# Altium integrated library Linear Technology Power Management LED Driver ICs.IntLib: 490 symbols (part 21 of 48)
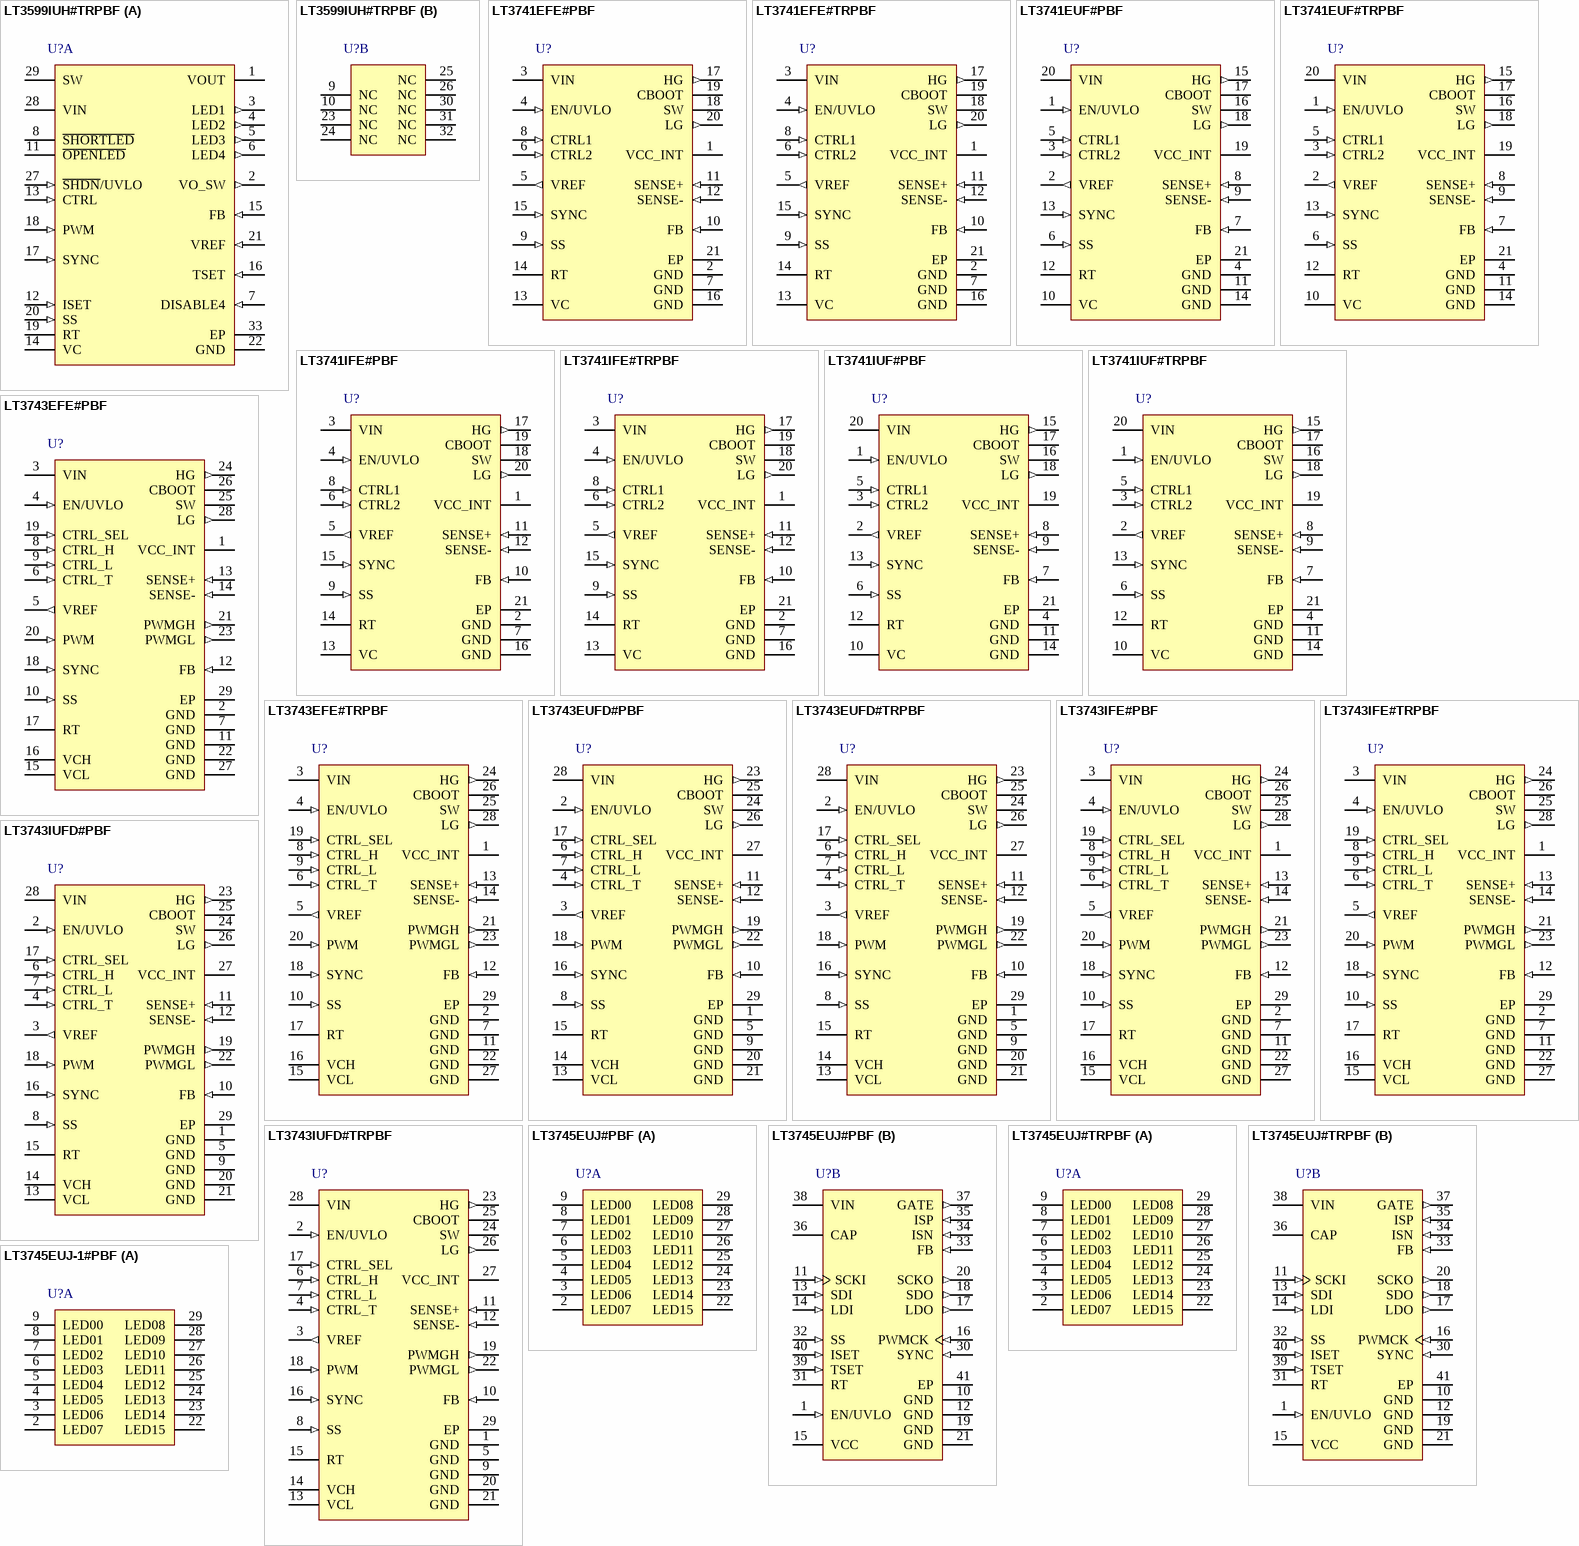
[diagram p40: symbols LT3599IUH#TRPBF to LT3745EUJ-1#PBF]

## LT3741EFE#TRPBF
designator U?
High Power, Constant Current, Constant Voltage Step-Down Controller, 6 to 36 V Vin, 20-pin SOP (FE-20-EPV-CB), -40 to 85 degC, Pb-Free, Tape and Reel; Manufacturer: Linear Technology; PartNumber: LT3741EFE#TRPBF; Topology: Buck; Vin Min(V): 6; DatasheetVersion: Rev. C; PackageVersion: Rev. I, 05/2011; PackageReference: FE-20; PackageDescription: 20-Pin Plastic TSSOP, Body 6.5 x 4.4 mm, Pitch 0.65 mm; Supplier 1: Digi-Key; Supplier Part Number 1: LT3741EFE#TRPBF-ND; Supplier 2: Newark; Supplier Part Number 2: 64R6830; Packing: Tape and Reel; RoHS: TRUE; Mounting Technology: Surface Mount; ComponentLink1Description: Manufacturer URL; ComponentLink1URL: http://www.linear.com/; ComponentLink2Description: Datasheet; ComponentLink2URL: http://cds.linear.com/docs/en/datasheet/37411fc.pdf; ComponentLink3Description: Package Specification; ComponentLink3URL: http://cds.linear.com/docs/en/packaging/05081663__J_FE20(CB).pdf
footprint LT-FE-20-EPV-CB_N (SOP, 20-Leads, Body 6.6x4.5mm, Pitch 0.65mm, Thermal Pad 3.86x2.74mm, IPC Medium Density)
footprint LT-FE-20-EPV-CB_L (SOP, 20-Leads, Body 6.6x4.5mm, Pitch 0.65mm, Thermal Pad 3.86x2.74mm, IPC High Density)
footprint LT-FE-20-EPV-CB_M (SOP, 20-Leads, Body 6.6x4.5mm, Pitch 0.65mm, Thermal Pad 3.86x2.74mm, IPC Low Density)
pins: 1 VCC_INT (power) "A regulated 5V output for charging the CBOOT capacitor. VCC_INT also provides the power for the digital and switching subcircuits. Below 6V VIN, tie this pin to the rail. VCC_INT is current limited to 50mA. Shutdown (See Datasheet)", 2 GND (power) "Ground. The exposed pad must be soldered to the PCB", 3 VIN (power) "Input Supply Pin. Must be locally bypassed with a 4.7uF low-ESR capacitor to ground.", 4 EN/UVLO (in) "Enable Pin. The EN/UVLO pin acts as an enable pin and turns on the internal current bias core and subregulators at 1.55V. The pin doesnot have any pull-up or pull-down, requiring a voltage bias for normal part operation. (See Datasheet)", 5 VREF (out) "Buffered 2V reference capable of 0.5mA drive.", 6 CTRL2 (in) "Thermal control input used to reduce the regulated current level.", 7 GND (power) "Ground. The exposed pad must be soldered to the PCB", 8 CTRL1 (in) "The CTRL1 pin sets the high level regulated output current and overcurrent. The maximum input voltage is internally clamped to 1.5V. The overcurrent set point is equal to the high level regulated current level set by the (See Datasheet)", 9 SS (in) "The Soft-Start Pin. Place an external capacitor to ground to limit the regulated current during start-up conditions. The soft-start pin has a 11uA charging current. This pin controls regulated output current determined by (See Datasheet)", 10 FB (in) "Feedback Pin for Voltage Regulation and Overvoltage Protection. The feedback voltage is 1.21V. Overvoltage is also sensed through the FB pin. When the feedback voltage exceeds 1.5V, the overvoltage lockout prevents switching (See Datasheet)", 11 SENSE+ (in) "SENSE+ is the inverting input of the average current mode loop error amplifier. This pin is connected to the external current sense resistor, RS. The voltage drop between SENSE+ and SENSE- referenced to the voltage drop (See Datasheet)", 12 SENSE- (in) "SENSE- is the non-inverting input of the average current mode loop error amplifier. The reference current, based on CTRL1 or CTRL2 flows out of the pin to the output side of the sense resistor, RS.", 13 VC "VC provides the necessary compensation for the average current loop stability. Typical compensation values are 20k to 50k for the resistor and 2nF to 5nF for the capacitor.", 14 RT "A resistor to ground sets the switching frequency between 200kHz and 1MHz. When using the SYNC function, set the frequency to be 20% lower than the SYNC pulse frequency. This pin is current limited to 60uA. Do not leave this (See Datasheet)", 15 SYNC (in) "Frequency Synchronization Pin. This pin allows the switching frequency to be synchronized to an external clock. The RT resistor should be chosen to operate the internal clock at 20% slower than the SYNC pulse frequency. This (See Datasheet)", 16 GND (power) "Ground. The exposed pad must be soldered to the PCB", 17 HG (out) "HG is the top-FET gate drive signal that controls the state of the high-side external power FET. The driver pull-up impedance is 2.3ohm and pull-down impedance is 1.3ohm.", 18 SW "The SW pin is used internally as the lower-rail for the floating high-side driver. Externally, this node connects the two power-FETs and the inductor.", 19 CBOOT "The CBOOT pin provides a floating 5V regulated supply for the high-side FET driver. An external Schottky diode is required from the VCC_INT pin to the CBOOT pin to charge the CBOOT capacitor when the switch-pin is near (See Datasheet)", 20 LG (out) "LG is the bottom-FET gate drive signal that controls the state of the low-side external power-FET. The driver pull-up impedance is 2.3ohm and pull-down impedance is 1.0ohm.", 21 EP (power) "Ground. The exposed pad must be soldered to the PCB"

## LT3741EUF#PBF
designator U?
High Power, Constant Current, Constant Voltage Step-Down Controller, 6 to 36 V Vin, 20-pin QFN (UF-20), -40 to 85 degC, Pb-Free; Manufacturer: Linear Technology; PartNumber: LT3741EUF#PBF; Topology: Buck; Vin Min(V): 6; DatasheetVersion: Rev. C; PackageVersion: Rev. A, 10/2010; PackageReference: UF20; PackageDescription: 20-Pin Plastic QFN, Body 4 x 4 mm, Pitch 0.5 mm; Supplier 1: Digi-Key; Supplier Part Number 1: LT3741EUF#PBF-ND; Supplier 2: Newark; Supplier Part Number 2: 64R6831; RoHS: TRUE; Mounting Technology: Surface Mount; Code_JEDEC: MO-220; ComponentLink1Description: Manufacturer URL; ComponentLink1URL: http://www.linear.com/; ComponentLink2Description: Datasheet; ComponentLink2URL: http://cds.linear.com/docs/en/datasheet/37411fc.pdf; ComponentLink3Description: Package Specification; ComponentLink3URL: http://cds.linear.com/docs/en/packaging/QFN_20_05-08-1710.pdf
footprint LT-UF-20_N (QFN, 20-Leads, Body 4.1x4.1mm, Pitch 0.5mm, Thermal Pad 2.45x2.45mm, IPC Medium Density)
footprint LT-UF-20_L (QFN, 20-Leads, Body 4.1x4.1mm, Pitch 0.5mm, Thermal Pad 2.45x2.45mm, IPC High Density)
footprint LT-UF-20_M (QFN, 20-Leads, Body 4.1x4.1mm, Pitch 0.5mm, Thermal Pad 2.45x2.45mm, IPC Low Density)
pins: 1 EN/UVLO (in) "Enable Pin. The EN/UVLO pin acts as an enable pin and turns on the internal current bias core and subregulators at 1.55V. The pin doesnot have any pull-up or pull-down, requiring a voltage bias for normal part operation. (See Datasheet)", 2 VREF (out) "Buffered 2V reference capable of 0.5mA drive.", 3 CTRL2 (in) "Thermal control input used to reduce the regulated current level.", 4 GND (power) "Ground. The exposed pad must be soldered to the PCB", 5 CTRL1 (in) "The CTRL1 pin sets the high level regulated output current and overcurrent. The maximum input voltage is internally clamped to 1.5V. The overcurrent set point is equal to the high level regulated current level set by the (See Datasheet)", 6 SS (in) "The Soft-Start Pin. Place an external capacitor to ground to limit the regulated current during start-up conditions. The soft-start pin has a 11uA charging current. This pin controls regulated output current determined by (See Datasheet)", 7 FB (in) "Feedback Pin for Voltage Regulation and Overvoltage Protection. The feedback voltage is 1.21V. Overvoltage is also sensed through the FB pin. When the feedback voltage exceeds 1.5V, the overvoltage lockout prevents switching (See Datasheet)", 8 SENSE+ (in) "SENSE+ is the inverting input of the average current mode loop error amplifier. This pin is connected to the external current sense resistor, RS. The voltage drop between SENSE+ and SENSE- referenced to the voltage drop (See Datasheet)", 9 SENSE- (in) "SENSE- is the non-inverting input of the average current mode loop error amplifier. The reference current, based on CTRL1 or CTRL2 flows out of the pin to the output side of the sense resistor, RS.", 10 VC "VC provides the necessary compensation for the average current loop stability. Typical compensation values are 20k to 50k for the resistor and 2nF to 5nF for the capacitor.", 11 GND (power) "Ground. The exposed pad must be soldered to the PCB", 12 RT "A resistor to ground sets the switching frequency between 200kHz and 1MHz. When using the SYNC function, set the frequency to be 20% lower than the SYNC pulse frequency. This pin is current limited to 60uA. Do not leave this (See Datasheet)", 13 SYNC (in) "Frequency Synchronization Pin. This pin allows the switching frequency to be synchronized to an external clock. The RT resistor should be chosen to operate the internal clock at 20% slower than the SYNC pulse frequency. This (See Datasheet)", 14 GND (power) "Ground. The exposed pad must be soldered to the PCB", 15 HG (out) "HG is the top-FET gate drive signal that controls the state of the high-side external power FET. The driver pull-up impedance is 2.3ohm and pull-down impedance is 1.3ohm.", 16 SW "The SW pin is used internally as the lower-rail for the floating high-side driver. Externally, this node connects the two power-FETs and the inductor.", 17 CBOOT "The CBOOT pin provides a floating 5V regulated supply for the high-side FET driver. An external Schottky diode is required from the VCC_INT pin to the CBOOT pin to charge the CBOOT capacitor when the switch-pin is near (See Datasheet)", 18 LG (out) "LG is the bottom-FET gate drive signal that controls the state of the low-side external power-FET. The driver pull-up impedance is 2.3ohm and pull-down impedance is 1.0ohm.", 19 VCC_INT (power) "A regulated 5V output for charging the CBOOT capacitor. VCC_INT also provides the power for the digital and switching subcircuits. Below 6V VIN, tie this pin to the rail. VCC_INT is current limited to 50mA. Shutdown (See Datasheet)", 20 VIN (power) "Input Supply Pin. Must be locally bypassed with a 4.7uF low-ESR capacitor to ground.", 21 EP (power) "Ground. The exposed pad must be soldered to the PCB"

## LT3741EUF#TRPBF
designator U?
High Power, Constant Current, Constant Voltage Step-Down Controller, 6 to 36 V Vin, 20-pin QFN (UF-20), -40 to 85 degC, Pb-Free, Tape and Reel; Manufacturer: Linear Technology; PartNumber: LT3741EUF#TRPBF; Topology: Buck; Vin Min(V): 6; DatasheetVersion: Rev. C; PackageVersion: Rev. A, 10/2010; PackageReference: UF20; PackageDescription: 20-Pin Plastic QFN, Body 4 x 4 mm, Pitch 0.5 mm; Supplier 1: Digi-Key; Supplier Part Number 1: LT3741EUF#TRPBF-ND; Supplier 2: Newark; Supplier Part Number 2: 64R6832; Packing: Tape and Reel; RoHS: TRUE; Mounting Technology: Surface Mount; Code_JEDEC: MO-220; ComponentLink1Description: Manufacturer URL; ComponentLink1URL: http://www.linear.com/; ComponentLink2Description: Datasheet; ComponentLink2URL: http://cds.linear.com/docs/en/datasheet/37411fc.pdf; ComponentLink3Description: Package Specification; ComponentLink3URL: http://cds.linear.com/docs/en/packaging/QFN_20_05-08-1710.pdf
footprint LT-UF-20_N (QFN, 20-Leads, Body 4.1x4.1mm, Pitch 0.5mm, Thermal Pad 2.45x2.45mm, IPC Medium Density)
footprint LT-UF-20_L (QFN, 20-Leads, Body 4.1x4.1mm, Pitch 0.5mm, Thermal Pad 2.45x2.45mm, IPC High Density)
footprint LT-UF-20_M (QFN, 20-Leads, Body 4.1x4.1mm, Pitch 0.5mm, Thermal Pad 2.45x2.45mm, IPC Low Density)
pins: 1 EN/UVLO (in) "Enable Pin. The EN/UVLO pin acts as an enable pin and turns on the internal current bias core and subregulators at 1.55V. The pin doesnot have any pull-up or pull-down, requiring a voltage bias for normal part operation. (See Datasheet)", 2 VREF (out) "Buffered 2V reference capable of 0.5mA drive.", 3 CTRL2 (in) "Thermal control input used to reduce the regulated current level.", 4 GND (power) "Ground. The exposed pad must be soldered to the PCB", 5 CTRL1 (in) "The CTRL1 pin sets the high level regulated output current and overcurrent. The maximum input voltage is internally clamped to 1.5V. The overcurrent set point is equal to the high level regulated current level set by the (See Datasheet)", 6 SS (in) "The Soft-Start Pin. Place an external capacitor to ground to limit the regulated current during start-up conditions. The soft-start pin has a 11uA charging current. This pin controls regulated output current determined by (See Datasheet)", 7 FB (in) "Feedback Pin for Voltage Regulation and Overvoltage Protection. The feedback voltage is 1.21V. Overvoltage is also sensed through the FB pin. When the feedback voltage exceeds 1.5V, the overvoltage lockout prevents switching (See Datasheet)", 8 SENSE+ (in) "SENSE+ is the inverting input of the average current mode loop error amplifier. This pin is connected to the external current sense resistor, RS. The voltage drop between SENSE+ and SENSE- referenced to the voltage drop (See Datasheet)", 9 SENSE- (in) "SENSE- is the non-inverting input of the average current mode loop error amplifier. The reference current, based on CTRL1 or CTRL2 flows out of the pin to the output side of the sense resistor, RS.", 10 VC "VC provides the necessary compensation for the average current loop stability. Typical compensation values are 20k to 50k for the resistor and 2nF to 5nF for the capacitor.", 11 GND (power) "Ground. The exposed pad must be soldered to the PCB", 12 RT "A resistor to ground sets the switching frequency between 200kHz and 1MHz. When using the SYNC function, set the frequency to be 20% lower than the SYNC pulse frequency. This pin is current limited to 60uA. Do not leave this (See Datasheet)", 13 SYNC (in) "Frequency Synchronization Pin. This pin allows the switching frequency to be synchronized to an external clock. The RT resistor should be chosen to operate the internal clock at 20% slower than the SYNC pulse frequency. This (See Datasheet)", 14 GND (power) "Ground. The exposed pad must be soldered to the PCB", 15 HG (out) "HG is the top-FET gate drive signal that controls the state of the high-side external power FET. The driver pull-up impedance is 2.3ohm and pull-down impedance is 1.3ohm.", 16 SW "The SW pin is used internally as the lower-rail for the floating high-side driver. Externally, this node connects the two power-FETs and the inductor.", 17 CBOOT "The CBOOT pin provides a floating 5V regulated supply for the high-side FET driver. An external Schottky diode is required from the VCC_INT pin to the CBOOT pin to charge the CBOOT capacitor when the switch-pin is near (See Datasheet)", 18 LG (out) "LG is the bottom-FET gate drive signal that controls the state of the low-side external power-FET. The driver pull-up impedance is 2.3ohm and pull-down impedance is 1.0ohm.", 19 VCC_INT (power) "A regulated 5V output for charging the CBOOT capacitor. VCC_INT also provides the power for the digital and switching subcircuits. Below 6V VIN, tie this pin to the rail. VCC_INT is current limited to 50mA. Shutdown (See Datasheet)", 20 VIN (power) "Input Supply Pin. Must be locally bypassed with a 4.7uF low-ESR capacitor to ground.", 21 EP (power) "Ground. The exposed pad must be soldered to the PCB"

## LT3741IFE#PBF
designator U?
High Power, Constant Current, Constant Voltage Step-Down Controller, 6 to 36 V Vin, 20-pin SOP (FE-20-EPV-CB), -40 to 85 degC, Pb-Free; Manufacturer: Linear Technology; PartNumber: LT3741IFE#PBF; Topology: Buck; Vin Min(V): 6; DatasheetVersion: Rev. C; PackageVersion: Rev. I, 05/2011; PackageReference: FE-20; PackageDescription: 20-Pin Plastic TSSOP, Body 6.5 x 4.4 mm, Pitch 0.65 mm; Supplier 1: Digi-Key; Supplier Part Number 1: LT3741IFE#PBF-ND; RoHS: TRUE; Mounting Technology: Surface Mount; ComponentLink1Description: Manufacturer URL; ComponentLink1URL: http://www.linear.com/; ComponentLink2Description: Datasheet; ComponentLink2URL: http://cds.linear.com/docs/en/datasheet/37411fc.pdf; ComponentLink3Description: Package Specification; ComponentLink3URL: http://cds.linear.com/docs/en/packaging/05081663__J_FE20(CB).pdf
footprint LT-FE-20-EPV-CB_N (SOP, 20-Leads, Body 6.6x4.5mm, Pitch 0.65mm, Thermal Pad 3.86x2.74mm, IPC Medium Density)
footprint LT-FE-20-EPV-CB_L (SOP, 20-Leads, Body 6.6x4.5mm, Pitch 0.65mm, Thermal Pad 3.86x2.74mm, IPC High Density)
footprint LT-FE-20-EPV-CB_M (SOP, 20-Leads, Body 6.6x4.5mm, Pitch 0.65mm, Thermal Pad 3.86x2.74mm, IPC Low Density)
pins: 1 VCC_INT (power) "A regulated 5V output for charging the CBOOT capacitor. VCC_INT also provides the power for the digital and switching subcircuits. Below 6V VIN, tie this pin to the rail. VCC_INT is current limited to 50mA. Shutdown (See Datasheet)", 2 GND (power) "Ground. The exposed pad must be soldered to the PCB", 3 VIN (power) "Input Supply Pin. Must be locally bypassed with a 4.7uF low-ESR capacitor to ground.", 4 EN/UVLO (in) "Enable Pin. The EN/UVLO pin acts as an enable pin and turns on the internal current bias core and subregulators at 1.55V. The pin doesnot have any pull-up or pull-down, requiring a voltage bias for normal part operation. (See Datasheet)", 5 VREF (out) "Buffered 2V reference capable of 0.5mA drive.", 6 CTRL2 (in) "Thermal control input used to reduce the regulated current level.", 7 GND (power) "Ground. The exposed pad must be soldered to the PCB", 8 CTRL1 (in) "The CTRL1 pin sets the high level regulated output current and overcurrent. The maximum input voltage is internally clamped to 1.5V. The overcurrent set point is equal to the high level regulated current level set by the (See Datasheet)", 9 SS (in) "The Soft-Start Pin. Place an external capacitor to ground to limit the regulated current during start-up conditions. The soft-start pin has a 11uA charging current. This pin controls regulated output current determined by (See Datasheet)", 10 FB (in) "Feedback Pin for Voltage Regulation and Overvoltage Protection. The feedback voltage is 1.21V. Overvoltage is also sensed through the FB pin. When the feedback voltage exceeds 1.5V, the overvoltage lockout prevents switching (See Datasheet)", 11 SENSE+ (in) "SENSE+ is the inverting input of the average current mode loop error amplifier. This pin is connected to the external current sense resistor, RS. The voltage drop between SENSE+ and SENSE- referenced to the voltage drop (See Datasheet)", 12 SENSE- (in) "SENSE- is the non-inverting input of the average current mode loop error amplifier. The reference current, based on CTRL1 or CTRL2 flows out of the pin to the output side of the sense resistor, RS.", 13 VC "VC provides the necessary compensation for the average current loop stability. Typical compensation values are 20k to 50k for the resistor and 2nF to 5nF for the capacitor.", 14 RT "A resistor to ground sets the switching frequency between 200kHz and 1MHz. When using the SYNC function, set the frequency to be 20% lower than the SYNC pulse frequency. This pin is current limited to 60uA. Do not leave this (See Datasheet)", 15 SYNC (in) "Frequency Synchronization Pin. This pin allows the switching frequency to be synchronized to an external clock. The RT resistor should be chosen to operate the internal clock at 20% slower than the SYNC pulse frequency. This (See Datasheet)", 16 GND (power) "Ground. The exposed pad must be soldered to the PCB", 17 HG (out) "HG is the top-FET gate drive signal that controls the state of the high-side external power FET. The driver pull-up impedance is 2.3ohm and pull-down impedance is 1.3ohm.", 18 SW "The SW pin is used internally as the lower-rail for the floating high-side driver. Externally, this node connects the two power-FETs and the inductor.", 19 CBOOT "The CBOOT pin provides a floating 5V regulated supply for the high-side FET driver. An external Schottky diode is required from the VCC_INT pin to the CBOOT pin to charge the CBOOT capacitor when the switch-pin is near (See Datasheet)", 20 LG (out) "LG is the bottom-FET gate drive signal that controls the state of the low-side external power-FET. The driver pull-up impedance is 2.3ohm and pull-down impedance is 1.0ohm.", 21 EP (power) "Ground. The exposed pad must be soldered to the PCB"

## LT3741IFE#TRPBF
designator U?
High Power, Constant Current, Constant Voltage Step-Down Controller, 6 to 36 V Vin, 20-pin SOP (FE-20-EPV-CB), -40 to 85 degC, Pb-Free, Tape and Reel; Manufacturer: Linear Technology; PartNumber: LT3741IFE#TRPBF; Topology: Buck; Vin Min(V): 6; DatasheetVersion: Rev. C; PackageVersion: Rev. I, 05/2011; PackageReference: FE-20; PackageDescription: 20-Pin Plastic TSSOP, Body 6.5 x 4.4 mm, Pitch 0.65 mm; Supplier 1: Digi-Key; Supplier Part Number 1: LT3741IFE#TRPBF-ND; Supplier 2: Newark; Supplier Part Number 2: 64R6834; Packing: Tape and Reel; RoHS: TRUE; Mounting Technology: Surface Mount; ComponentLink1Description: Manufacturer URL; ComponentLink1URL: http://www.linear.com/; ComponentLink2Description: Datasheet; ComponentLink2URL: http://cds.linear.com/docs/en/datasheet/37411fc.pdf; ComponentLink3Description: Package Specification; ComponentLink3URL: http://cds.linear.com/docs/en/packaging/05081663__J_FE20(CB).pdf
footprint LT-FE-20-EPV-CB_N (SOP, 20-Leads, Body 6.6x4.5mm, Pitch 0.65mm, Thermal Pad 3.86x2.74mm, IPC Medium Density)
footprint LT-FE-20-EPV-CB_L (SOP, 20-Leads, Body 6.6x4.5mm, Pitch 0.65mm, Thermal Pad 3.86x2.74mm, IPC High Density)
footprint LT-FE-20-EPV-CB_M (SOP, 20-Leads, Body 6.6x4.5mm, Pitch 0.65mm, Thermal Pad 3.86x2.74mm, IPC Low Density)
pins: 1 VCC_INT (power) "A regulated 5V output for charging the CBOOT capacitor. VCC_INT also provides the power for the digital and switching subcircuits. Below 6V VIN, tie this pin to the rail. VCC_INT is current limited to 50mA. Shutdown (See Datasheet)", 2 GND (power) "Ground. The exposed pad must be soldered to the PCB", 3 VIN (power) "Input Supply Pin. Must be locally bypassed with a 4.7uF low-ESR capacitor to ground.", 4 EN/UVLO (in) "Enable Pin. The EN/UVLO pin acts as an enable pin and turns on the internal current bias core and subregulators at 1.55V. The pin doesnot have any pull-up or pull-down, requiring a voltage bias for normal part operation. (See Datasheet)", 5 VREF (out) "Buffered 2V reference capable of 0.5mA drive.", 6 CTRL2 (in) "Thermal control input used to reduce the regulated current level.", 7 GND (power) "Ground. The exposed pad must be soldered to the PCB", 8 CTRL1 (in) "The CTRL1 pin sets the high level regulated output current and overcurrent. The maximum input voltage is internally clamped to 1.5V. The overcurrent set point is equal to the high level regulated current level set by the (See Datasheet)", 9 SS (in) "The Soft-Start Pin. Place an external capacitor to ground to limit the regulated current during start-up conditions. The soft-start pin has a 11uA charging current. This pin controls regulated output current determined by (See Datasheet)", 10 FB (in) "Feedback Pin for Voltage Regulation and Overvoltage Protection. The feedback voltage is 1.21V. Overvoltage is also sensed through the FB pin. When the feedback voltage exceeds 1.5V, the overvoltage lockout prevents switching (See Datasheet)", 11 SENSE+ (in) "SENSE+ is the inverting input of the average current mode loop error amplifier. This pin is connected to the external current sense resistor, RS. The voltage drop between SENSE+ and SENSE- referenced to the voltage drop (See Datasheet)", 12 SENSE- (in) "SENSE- is the non-inverting input of the average current mode loop error amplifier. The reference current, based on CTRL1 or CTRL2 flows out of the pin to the output side of the sense resistor, RS.", 13 VC "VC provides the necessary compensation for the average current loop stability. Typical compensation values are 20k to 50k for the resistor and 2nF to 5nF for the capacitor.", 14 RT "A resistor to ground sets the switching frequency between 200kHz and 1MHz. When using the SYNC function, set the frequency to be 20% lower than the SYNC pulse frequency. This pin is current limited to 60uA. Do not leave this (See Datasheet)", 15 SYNC (in) "Frequency Synchronization Pin. This pin allows the switching frequency to be synchronized to an external clock. The RT resistor should be chosen to operate the internal clock at 20% slower than the SYNC pulse frequency. This (See Datasheet)", 16 GND (power) "Ground. The exposed pad must be soldered to the PCB", 17 HG (out) "HG is the top-FET gate drive signal that controls the state of the high-side external power FET. The driver pull-up impedance is 2.3ohm and pull-down impedance is 1.3ohm.", 18 SW "The SW pin is used internally as the lower-rail for the floating high-side driver. Externally, this node connects the two power-FETs and the inductor.", 19 CBOOT "The CBOOT pin provides a floating 5V regulated supply for the high-side FET driver. An external Schottky diode is required from the VCC_INT pin to the CBOOT pin to charge the CBOOT capacitor when the switch-pin is near (See Datasheet)", 20 LG (out) "LG is the bottom-FET gate drive signal that controls the state of the low-side external power-FET. The driver pull-up impedance is 2.3ohm and pull-down impedance is 1.0ohm.", 21 EP (power) "Ground. The exposed pad must be soldered to the PCB"

## LT3741IUF#PBF
designator U?
High Power, Constant Current, Constant Voltage Step-Down Controller, 6 to 36 V Vin, 20-pin QFN (UF-20), -40 to 85 degC, Pb-Free; Manufacturer: Linear Technology; PartNumber: LT3741IUF#PBF; Topology: Buck; Vin Min(V): 6; DatasheetVersion: Rev. C; PackageVersion: Rev. A, 10/2010; PackageReference: UF20; PackageDescription: 20-Pin Plastic QFN, Body 4 x 4 mm, Pitch 0.5 mm; Supplier 1: Digi-Key; Supplier Part Number 1: LT3741IUF#PBF-ND; Supplier 2: Newark; Supplier Part Number 2: 64R6835; RoHS: TRUE; Mounting Technology: Surface Mount; Code_JEDEC: MO-220; ComponentLink1Description: Manufacturer URL; ComponentLink1URL: http://www.linear.com/; ComponentLink2Description: Datasheet; ComponentLink2URL: http://cds.linear.com/docs/en/datasheet/37411fc.pdf; ComponentLink3Description: Package Specification; ComponentLink3URL: http://cds.linear.com/docs/en/packaging/QFN_20_05-08-1710.pdf
footprint LT-UF-20_N (QFN, 20-Leads, Body 4.1x4.1mm, Pitch 0.5mm, Thermal Pad 2.45x2.45mm, IPC Medium Density)
footprint LT-UF-20_L (QFN, 20-Leads, Body 4.1x4.1mm, Pitch 0.5mm, Thermal Pad 2.45x2.45mm, IPC High Density)
footprint LT-UF-20_M (QFN, 20-Leads, Body 4.1x4.1mm, Pitch 0.5mm, Thermal Pad 2.45x2.45mm, IPC Low Density)
pins: 1 EN/UVLO (in) "Enable Pin. The EN/UVLO pin acts as an enable pin and turns on the internal current bias core and subregulators at 1.55V. The pin doesnot have any pull-up or pull-down, requiring a voltage bias for normal part operation. (See Datasheet)", 2 VREF (out) "Buffered 2V reference capable of 0.5mA drive.", 3 CTRL2 (in) "Thermal control input used to reduce the regulated current level.", 4 GND (power) "Ground. The exposed pad must be soldered to the PCB", 5 CTRL1 (in) "The CTRL1 pin sets the high level regulated output current and overcurrent. The maximum input voltage is internally clamped to 1.5V. The overcurrent set point is equal to the high level regulated current level set by the (See Datasheet)", 6 SS (in) "The Soft-Start Pin. Place an external capacitor to ground to limit the regulated current during start-up conditions. The soft-start pin has a 11uA charging current. This pin controls regulated output current determined by (See Datasheet)", 7 FB (in) "Feedback Pin for Voltage Regulation and Overvoltage Protection. The feedback voltage is 1.21V. Overvoltage is also sensed through the FB pin. When the feedback voltage exceeds 1.5V, the overvoltage lockout prevents switching (See Datasheet)", 8 SENSE+ (in) "SENSE+ is the inverting input of the average current mode loop error amplifier. This pin is connected to the external current sense resistor, RS. The voltage drop between SENSE+ and SENSE- referenced to the voltage drop (See Datasheet)", 9 SENSE- (in) "SENSE- is the non-inverting input of the average current mode loop error amplifier. The reference current, based on CTRL1 or CTRL2 flows out of the pin to the output side of the sense resistor, RS.", 10 VC "VC provides the necessary compensation for the average current loop stability. Typical compensation values are 20k to 50k for the resistor and 2nF to 5nF for the capacitor.", 11 GND (power) "Ground. The exposed pad must be soldered to the PCB", 12 RT "A resistor to ground sets the switching frequency between 200kHz and 1MHz. When using the SYNC function, set the frequency to be 20% lower than the SYNC pulse frequency. This pin is current limited to 60uA. Do not leave this (See Datasheet)", 13 SYNC (in) "Frequency Synchronization Pin. This pin allows the switching frequency to be synchronized to an external clock. The RT resistor should be chosen to operate the internal clock at 20% slower than the SYNC pulse frequency. This (See Datasheet)", 14 GND (power) "Ground. The exposed pad must be soldered to the PCB", 15 HG (out) "HG is the top-FET gate drive signal that controls the state of the high-side external power FET. The driver pull-up impedance is 2.3ohm and pull-down impedance is 1.3ohm.", 16 SW "The SW pin is used internally as the lower-rail for the floating high-side driver. Externally, this node connects the two power-FETs and the inductor.", 17 CBOOT "The CBOOT pin provides a floating 5V regulated supply for the high-side FET driver. An external Schottky diode is required from the VCC_INT pin to the CBOOT pin to charge the CBOOT capacitor when the switch-pin is near (See Datasheet)", 18 LG (out) "LG is the bottom-FET gate drive signal that controls the state of the low-side external power-FET. The driver pull-up impedance is 2.3ohm and pull-down impedance is 1.0ohm.", 19 VCC_INT (power) "A regulated 5V output for charging the CBOOT capacitor. VCC_INT also provides the power for the digital and switching subcircuits. Below 6V VIN, tie this pin to the rail. VCC_INT is current limited to 50mA. Shutdown (See Datasheet)", 20 VIN (power) "Input Supply Pin. Must be locally bypassed with a 4.7uF low-ESR capacitor to ground.", 21 EP (power) "Ground. The exposed pad must be soldered to the PCB"

## LT3741IUF#TRPBF
designator U?
High Power, Constant Current, Constant Voltage Step-Down Controller, 6 to 36 V Vin, 20-pin QFN (UF-20), -40 to 85 degC, Pb-Free, Tape and Reel; Manufacturer: Linear Technology; PartNumber: LT3741IUF#TRPBF; Topology: Buck; Vin Min(V): 6; DatasheetVersion: Rev. C; PackageVersion: Rev. A, 10/2010; PackageReference: UF20; PackageDescription: 20-Pin Plastic QFN, Body 4 x 4 mm, Pitch 0.5 mm; Supplier 1: Digi-Key; Supplier Part Number 1: LT3741IUF#TRPBF-ND; Packing: Tape and Reel; RoHS: TRUE; Mounting Technology: Surface Mount; Code_JEDEC: MO-220; ComponentLink1Description: Manufacturer URL; ComponentLink1URL: http://www.linear.com/; ComponentLink2Description: Datasheet; ComponentLink2URL: http://cds.linear.com/docs/en/datasheet/37411fc.pdf; ComponentLink3Description: Package Specification; ComponentLink3URL: http://cds.linear.com/docs/en/packaging/QFN_20_05-08-1710.pdf
footprint LT-UF-20_N (QFN, 20-Leads, Body 4.1x4.1mm, Pitch 0.5mm, Thermal Pad 2.45x2.45mm, IPC Medium Density)
footprint LT-UF-20_L (QFN, 20-Leads, Body 4.1x4.1mm, Pitch 0.5mm, Thermal Pad 2.45x2.45mm, IPC High Density)
footprint LT-UF-20_M (QFN, 20-Leads, Body 4.1x4.1mm, Pitch 0.5mm, Thermal Pad 2.45x2.45mm, IPC Low Density)
pins: 1 EN/UVLO (in) "Enable Pin. The EN/UVLO pin acts as an enable pin and turns on the internal current bias core and subregulators at 1.55V. The pin doesnot have any pull-up or pull-down, requiring a voltage bias for normal part operation. (See Datasheet)", 2 VREF (out) "Buffered 2V reference capable of 0.5mA drive.", 3 CTRL2 (in) "Thermal control input used to reduce the regulated current level.", 4 GND (power) "Ground. The exposed pad must be soldered to the PCB", 5 CTRL1 (in) "The CTRL1 pin sets the high level regulated output current and overcurrent. The maximum input voltage is internally clamped to 1.5V. The overcurrent set point is equal to the high level regulated current level set by the (See Datasheet)", 6 SS (in) "The Soft-Start Pin. Place an external capacitor to ground to limit the regulated current during start-up conditions. The soft-start pin has a 11uA charging current. This pin controls regulated output current determined by (See Datasheet)", 7 FB (in) "Feedback Pin for Voltage Regulation and Overvoltage Protection. The feedback voltage is 1.21V. Overvoltage is also sensed through the FB pin. When the feedback voltage exceeds 1.5V, the overvoltage lockout prevents switching (See Datasheet)", 8 SENSE+ (in) "SENSE+ is the inverting input of the average current mode loop error amplifier. This pin is connected to the external current sense resistor, RS. The voltage drop between SENSE+ and SENSE- referenced to the voltage drop (See Datasheet)", 9 SENSE- (in) "SENSE- is the non-inverting input of the average current mode loop error amplifier. The reference current, based on CTRL1 or CTRL2 flows out of the pin to the output side of the sense resistor, RS.", 10 VC "VC provides the necessary compensation for the average current loop stability. Typical compensation values are 20k to 50k for the resistor and 2nF to 5nF for the capacitor.", 11 GND (power) "Ground. The exposed pad must be soldered to the PCB", 12 RT "A resistor to ground sets the switching frequency between 200kHz and 1MHz. When using the SYNC function, set the frequency to be 20% lower than the SYNC pulse frequency. This pin is current limited to 60uA. Do not leave this (See Datasheet)", 13 SYNC (in) "Frequency Synchronization Pin. This pin allows the switching frequency to be synchronized to an external clock. The RT resistor should be chosen to operate the internal clock at 20% slower than the SYNC pulse frequency. This (See Datasheet)", 14 GND (power) "Ground. The exposed pad must be soldered to the PCB", 15 HG (out) "HG is the top-FET gate drive signal that controls the state of the high-side external power FET. The driver pull-up impedance is 2.3ohm and pull-down impedance is 1.3ohm.", 16 SW "The SW pin is used internally as the lower-rail for the floating high-side driver. Externally, this node connects the two power-FETs and the inductor.", 17 CBOOT "The CBOOT pin provides a floating 5V regulated supply for the high-side FET driver. An external Schottky diode is required from the VCC_INT pin to the CBOOT pin to charge the CBOOT capacitor when the switch-pin is near (See Datasheet)", 18 LG (out) "LG is the bottom-FET gate drive signal that controls the state of the low-side external power-FET. The driver pull-up impedance is 2.3ohm and pull-down impedance is 1.0ohm.", 19 VCC_INT (power) "A regulated 5V output for charging the CBOOT capacitor. VCC_INT also provides the power for the digital and switching subcircuits. Below 6V VIN, tie this pin to the rail. VCC_INT is current limited to 50mA. Shutdown (See Datasheet)", 20 VIN (power) "Input Supply Pin. Must be locally bypassed with a 4.7uF low-ESR capacitor to ground.", 21 EP (power) "Ground. The exposed pad must be soldered to the PCB"

## LT3743EFE#PBF
designator U?
High Current Synchronous Step-Down LED Driver with Three-State Control, 6 to 36 V Vin, 28-pin SOP (FE-28-EPV-EB), -40 to 125 degC, Pb-Free; Manufacturer: Linear Technology; PartNumber: LT3743EFE#PBF; Topology: Buck, LED Driver; Vin Min(V): 6; DatasheetVersion: Rev. D; PackageVersion: Rev. J, 11/2012; PackageReference: FE-28; PackageDescription: 28-Pin Plastic TSSOP, Body 9.7 x 4.4 mm, Pitch 0.65 mm; Supplier 1: Digi-Key; Supplier Part Number 1: LT3743EFE#PBF-ND; Supplier 2: Farnell; Supplier Part Number 2: 1839162; Supplier 3: Newark; Supplier Part Number 3: 52R9876; RoHS: TRUE; Mounting Technology: Surface Mount; ComponentLink1Description: Manufacturer URL; ComponentLink1URL: http://www.linear.com/; ComponentLink2Description: Datasheet; ComponentLink2URL: http://cds.linear.com/docs/en/datasheet/3743fd.pdf; ComponentLink3Description: Package Specification; ComponentLink3URL: http://cds.linear.com/docs/en/packaging/05081663__J_FE28(EB).pdf
footprint LT-FE-28-EPV-EB_N (SOP, 28-Leads, Body 9.8x4.5mm, Pitch 0.65mm, Thermal Pad 4.75x2.74mm, IPC Medium Density)
footprint LT-FE-28-EPV-EB_L (SOP, 28-Leads, Body 9.8x4.5mm, Pitch 0.65mm, Thermal Pad 4.75x2.74mm, IPC High Density)
footprint LT-FE-28-EPV-EB_M (SOP, 28-Leads, Body 9.8x4.5mm, Pitch 0.65mm, Thermal Pad 4.75x2.74mm, IPC Low Density)
pins: 1 VCC_INT (power) "A regulated 5V output for charging the CBOOT capacitor. VCC_INT also provides the power for the digital and switching subcircuits. Below 6V VIN, tie this pin to the rail. VCC_INT is current limited to  approx=50mA. Shutdown (See Datasheet)", 2 GND (power) "Ground.", 3 VIN (power) "Input Supply Pin. Must be locally bypassed with a 1uF low ESR capacitor to ground.", 4 EN/UVLO (in) "Enable Pin. The EN/UVLO pin acts as an enable pin and turns on the internal current bias core and subregulators at 1.55V. The pin does not have any pull-up or pull-down, requiring a voltage bias for normal part operation. (See Datasheet)", 5 VREF (out) "Buffered 2V Reference Capable of 0.5mA Drive.", 6 CTRL_T (in) "The thermal control input to reduce the regulated current level for both current levels (CTRL_L and CTRL_H).", 7 GND (power) "Ground.", 8 CTRL_H (in) "The CTRL_H pin sets the high level regulated output current and overcurrent. The maximum input voltage is internally clamped to 1.5V. The overcurrent set point is equal to the high level regulated current level set by the (See Datasheet)", 9 CTRL_L (in) "The CTRL_L pin sets the low level regulated output current. It is not recommended that the CTRL_L voltage be higher than the CTRL_H voltage.", 10 SS (in) "Soft-Start Pin. Place an external capacitor to ground to limit the regulated current during start-up conditions. The SS pin has a 5.5uA charging current. This pin controls both of the regulated inputs determined by CTRL_L (See Datasheet)", 11 GND (power) "Ground.", 12 FB (in) "Feedback Pin for Overvoltage Protection. The feedback voltage is 1V. Overvoltage/Open LED is sensed through the FB pin. When the feedback voltage exceeds 1.3V, the overvoltage lockout prevents switching and connects both (See Datasheet)", 13 SENSE+ (in) "SENSE+ is the inverting input of the average current mode loop error amplifier. This pin is connected to the external current sense resistor, RS. The voltage drop between SENSE+ and SENSE- referenced to the voltage drop (See Datasheet)", 14 SENSE- (in) "SENSE- is the noninverting input of the average current mode loop error amplifier. The reference current, based on CTRL_L or CTRL_H flows out of the pin to the output (LED) side of the sense resistor, RS.", 15 VCL "VCL provides the necessary compensation for the average current loop stability during low level current regulation. Typical compensation values are 15k to 80k for the resistor and 2nF to 10nF for the capacitor.", 16 VCH "VCH provides the necessary compensation for the average current loop stability during high level current regulation. Typical compensation values are 15k to 80k for the resistor and 2nF to 10nF for the capacitor.", 17 RT "A resistor to ground sets the switching frequency between 200kHz and 1MHz. When using the SYNC function, set the frequency to be 20% lower than the SYNC pulse frequency. This pin is current limited to 60uA. Do not leave this (See Datasheet)", 18 SYNC (in) "Frequency Synchronization Pin. This pin allows the switching frequency to be synchronized to an external clock. The RT resistor should be chosen to operate the internal clock at 20% slower than the SYNC pulse frequency. The (See Datasheet)", 19 CTRL_SEL (in) "The CTRL_SEL pin selects between the high current control, CTRL_H and the low current control, CTRL_L. When high, the VCH pin is connected to the error amp output and the PWMGH gate signal is high. When low, the VCL pin is (See Datasheet)", 20 PWM (in) "The input pin for PWM dimming of the LED. When low, all switching is terminated and the output caps are disconnected. This pin should be pulled to VCC_INT when not in use.", 21 PWMGH (out) "The PWMGH output pin drives the gate of an external FET to connect one of the switching regulator output capacitors to the load. The driver pull-up impedance is 3.2ohm and pull-down impedance is 1.75ohm.", 22 GND (power) "Ground.", 23 PWMGL (out) "The PWMGL output pin drives the gate of an external FET to connect one of the switching regulator output capacitors to the load. The driver pull-up impedance is 3.2ohm and pull-down impedance is 1.75ohm.", 24 HG (out) "HG is the top FET gate drive signal that controls the state of the high side external power FET. The driver pull-up impedance is 2.3ohm and pull-down impedance is 1.3ohm.", 25 SW "The SW pin is used internally as the lower rail for the floating high side driver. Externally, this node connects the two power FETs and the inductor.", 26 CBOOT (power) "The CBOOT pin provides a floating 5V regulated supply for the high side FET driver. An external Schottky diode is required from the VCC_INT pin to the CBOOT pin to charge the CBOOT capacitor when the switch pin is near (See Datasheet)", 27 GND (power) "Ground.", 28 LG (out) "LG is the bottom FET gate drive signal that controls the state of the low side external power FET. The driver pull-up impedance is 2.5ohm and pull-down impedance is 1.3ohm.", 29 EP (power) "Ground. The exposed pad must be soldered to the PCB."

## LT3743EFE#TRPBF
designator U?
High Current Synchronous Step-Down LED Driver with Three-State Control, 6 to 36 V Vin, 28-pin SOP (FE-28-EPV-EB), -40 to 125 degC, Pb-Free, Tape and Reel; Manufacturer: Linear Technology; PartNumber: LT3743EFE#TRPBF; Topology: Buck, LED Driver; Vin Min(V): 6; DatasheetVersion: Rev. D; PackageVersion: Rev. J, 11/2012; PackageReference: FE-28; PackageDescription: 28-Pin Plastic TSSOP, Body 9.7 x 4.4 mm, Pitch 0.65 mm; Supplier 1: Digi-Key; Supplier Part Number 1: LT3743EFE#TRPBF-ND; Packing: Tape and Reel; RoHS: TRUE; Mounting Technology: Surface Mount; ComponentLink1Description: Manufacturer URL; ComponentLink1URL: http://www.linear.com/; ComponentLink2Description: Datasheet; ComponentLink2URL: http://cds.linear.com/docs/en/datasheet/3743fd.pdf; ComponentLink3Description: Package Specification; ComponentLink3URL: http://cds.linear.com/docs/en/packaging/05081663__J_FE28(EB).pdf
footprint LT-FE-28-EPV-EB_N (SOP, 28-Leads, Body 9.8x4.5mm, Pitch 0.65mm, Thermal Pad 4.75x2.74mm, IPC Medium Density)
footprint LT-FE-28-EPV-EB_L (SOP, 28-Leads, Body 9.8x4.5mm, Pitch 0.65mm, Thermal Pad 4.75x2.74mm, IPC High Density)
footprint LT-FE-28-EPV-EB_M (SOP, 28-Leads, Body 9.8x4.5mm, Pitch 0.65mm, Thermal Pad 4.75x2.74mm, IPC Low Density)
pins: 1 VCC_INT (power) "A regulated 5V output for charging the CBOOT capacitor. VCC_INT also provides the power for the digital and switching subcircuits. Below 6V VIN, tie this pin to the rail. VCC_INT is current limited to  approx=50mA. Shutdown (See Datasheet)", 2 GND (power) "Ground.", 3 VIN (power) "Input Supply Pin. Must be locally bypassed with a 1uF low ESR capacitor to ground.", 4 EN/UVLO (in) "Enable Pin. The EN/UVLO pin acts as an enable pin and turns on the internal current bias core and subregulators at 1.55V. The pin does not have any pull-up or pull-down, requiring a voltage bias for normal part operation. (See Datasheet)", 5 VREF (out) "Buffered 2V Reference Capable of 0.5mA Drive.", 6 CTRL_T (in) "The thermal control input to reduce the regulated current level for both current levels (CTRL_L and CTRL_H).", 7 GND (power) "Ground.", 8 CTRL_H (in) "The CTRL_H pin sets the high level regulated output current and overcurrent. The maximum input voltage is internally clamped to 1.5V. The overcurrent set point is equal to the high level regulated current level set by the (See Datasheet)", 9 CTRL_L (in) "The CTRL_L pin sets the low level regulated output current. It is not recommended that the CTRL_L voltage be higher than the CTRL_H voltage.", 10 SS (in) "Soft-Start Pin. Place an external capacitor to ground to limit the regulated current during start-up conditions. The SS pin has a 5.5uA charging current. This pin controls both of the regulated inputs determined by CTRL_L (See Datasheet)", 11 GND (power) "Ground.", 12 FB (in) "Feedback Pin for Overvoltage Protection. The feedback voltage is 1V. Overvoltage/Open LED is sensed through the FB pin. When the feedback voltage exceeds 1.3V, the overvoltage lockout prevents switching and connects both (See Datasheet)", 13 SENSE+ (in) "SENSE+ is the inverting input of the average current mode loop error amplifier. This pin is connected to the external current sense resistor, RS. The voltage drop between SENSE+ and SENSE- referenced to the voltage drop (See Datasheet)", 14 SENSE- (in) "SENSE- is the noninverting input of the average current mode loop error amplifier. The reference current, based on CTRL_L or CTRL_H flows out of the pin to the output (LED) side of the sense resistor, RS.", 15 VCL "VCL provides the necessary compensation for the average current loop stability during low level current regulation. Typical compensation values are 15k to 80k for the resistor and 2nF to 10nF for the capacitor.", 16 VCH "VCH provides the necessary compensation for the average current loop stability during high level current regulation. Typical compensation values are 15k to 80k for the resistor and 2nF to 10nF for the capacitor.", 17 RT "A resistor to ground sets the switching frequency between 200kHz and 1MHz. When using the SYNC function, set the frequency to be 20% lower than the SYNC pulse frequency. This pin is current limited to 60uA. Do not leave this (See Datasheet)", 18 SYNC (in) "Frequency Synchronization Pin. This pin allows the switching frequency to be synchronized to an external clock. The RT resistor should be chosen to operate the internal clock at 20% slower than the SYNC pulse frequency. The (See Datasheet)", 19 CTRL_SEL (in) "The CTRL_SEL pin selects between the high current control, CTRL_H and the low current control, CTRL_L. When high, the VCH pin is connected to the error amp output and the PWMGH gate signal is high. When low, the VCL pin is (See Datasheet)", 20 PWM (in) "The input pin for PWM dimming of the LED. When low, all switching is terminated and the output caps are disconnected. This pin should be pulled to VCC_INT when not in use.", 21 PWMGH (out) "The PWMGH output pin drives the gate of an external FET to connect one of the switching regulator output capacitors to the load. The driver pull-up impedance is 3.2ohm and pull-down impedance is 1.75ohm.", 22 GND (power) "Ground.", 23 PWMGL (out) "The PWMGL output pin drives the gate of an external FET to connect one of the switching regulator output capacitors to the load. The driver pull-up impedance is 3.2ohm and pull-down impedance is 1.75ohm.", 24 HG (out) "HG is the top FET gate drive signal that controls the state of the high side external power FET. The driver pull-up impedance is 2.3ohm and pull-down impedance is 1.3ohm.", 25 SW "The SW pin is used internally as the lower rail for the floating high side driver. Externally, this node connects the two power FETs and the inductor.", 26 CBOOT (power) "The CBOOT pin provides a floating 5V regulated supply for the high side FET driver. An external Schottky diode is required from the VCC_INT pin to the CBOOT pin to charge the CBOOT capacitor when the switch pin is near (See Datasheet)", 27 GND (power) "Ground.", 28 LG (out) "LG is the bottom FET gate drive signal that controls the state of the low side external power FET. The driver pull-up impedance is 2.5ohm and pull-down impedance is 1.3ohm.", 29 EP (power) "Ground. The exposed pad must be soldered to the PCB."